# Altium footprint library Antenna.PcbLib: 7 footprints
Each footprint in its own frame and in the unit in brackets; x right, y up, seen from the top. Pads: shape width x height; smd on the part's side, far side on the other; paste and mask are expansions set on the pad; w line width, h text height; cw(c..) or ccw(c..) is an arc to the next point about the centre after c.
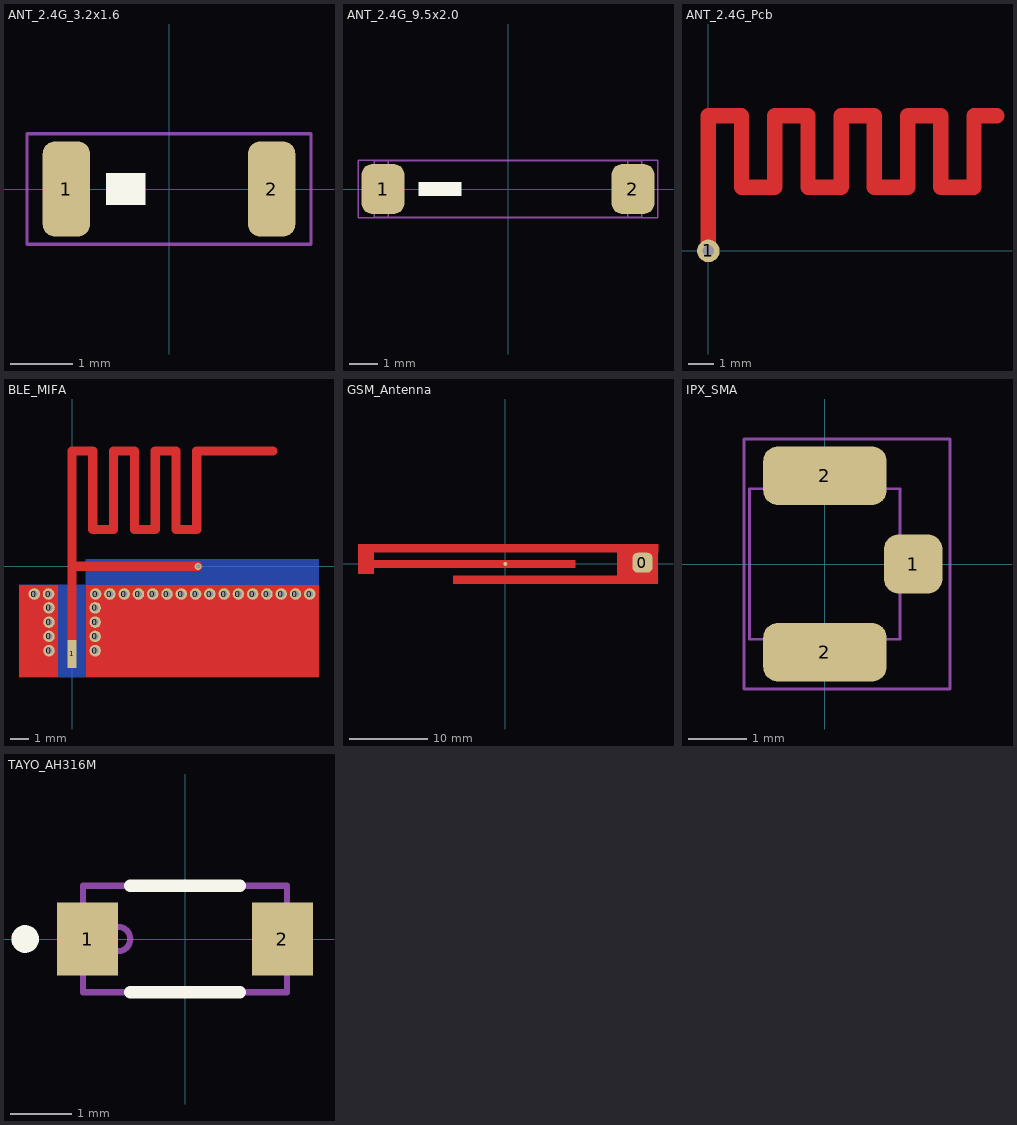
[diagram p0: the footprints below, top view; thin cyan lines are the x and y axes]

## ANT_2.4G_3.2x1.6 [mil]
height 47.24
pads (2):
  rrect50% 30x60 smd: 1(-65,0) 2(65,0)
Top Overlay:
  rectangle: -40,-10 -15,10
T-Component:
  lines w2: -90,-35 -90,35 90,35 90,-35 -90,-35
  text ".Designator" at -75,-20 h80
3D body "User Library-2450AT18A100E.STEP": height 53.15, standoff -1.97, extent -64.96,-33.46 64.96,33.47

## ANT_2.4G_9.5x2.0 [mil]
height 47.24
pads (2):
  rrect50% 60x70 smd: 1(-175,0) 2(175,0)
Top Overlay:
  rectangle: -125,-10 -65,10
Mechanical 13:
  lines w2: -167.32,-39.37 -167.32,39.37 ; 167.32,-39.37 167.32,39.37 ; -187.01,-39.37 187.01,-39.37 187.01,39.37 -187.01,39.37 -187.01,-39.37
T-Component:
  lines w2: -210,-40 210,-40 210,40 -210,40 -210,-40
  text ".Designator" at -75,-20 h80
3D body "User Library-ANTENNA_WLAN.STEP": height 40.16, standoff -0.79, extent -187.8,-40 187.8,40.31

## ANT_2.4G_Pcb [mil]
pads (1):
  round 35 hole 18: 1(0,0)
Top Layer:
  lines w23.62: 0,3.51 0,208.24 51.18,208.24 51.18,98 102.36,98 102.36,208.24 153.54,208.24 153.54,98 204.72,98 204.72,208.24 255.91,208.24 255.91,98 307.09,98 307.09,208.24 358.27,208.24 358.27,98 409.45,98 409.45,208.24 444.88,208.24

## BLE_MIFA [mil]
pads (27):
  round 25 hole 15: 0(-81.93,-60) 0(-51,-60) 0(-50,-182.8) 0(-50,-151.87) 0(-50,-120.93) 0(-50,-90) 0(50,-182.8) 0(50,-151.87) 0(50,-120.93) 0(50,-90) 0(51,-60) 0(81.93,-60) 0(112.87,-60) 0(143.8,-60) 0(174.73,-60) 0(205.67,-60) 0(236.6,-60) 0(267.53,-60) 0(298.47,-60) 0(329.4,-60) 0(360.33,-60) 0(391.27,-60) 0(422.2,-60) 0(453.13,-60) 0(484.07,-60) 0(515,-60)
  rect 20x60 smd: 1(0,-190)
via 273,0 diameter 15 hole 10
Top Layer:
  rectangle: -115,-240 -30,-40
  rectangle: -10,-165 10,10
  rectangle: 30,-240 535,-40
  lines w20: 273,0 0,0 0,250 45,250 45,80 90,80 90,250 135,250 135,80 180,80 180,250 225,250 225,80 270,80 270,250 435,250
Bottom Layer:
  region: -115,-40 30,-40 30,15 535,15 535,-240 -115,-240
  lines w3: -30,-170 -15,-170 ; 155,-40 155,-10

## GSM_Antenna [mil]
pads (2):
  rrect50% 100x100 smd: 0(690,5)
  round 20 smd: 1(1.06,-0.91)
Top Layer:
  region: 353.43,17.94 353.43,-21.43 -738.27,-21.43 -738.27,17.94
  region: -659.93,-50.33 -738.74,-50.33 -738.74,94.58 -659.93,94.58
  region: 767.91,96.85 767.91,57.49 -738.16,57.49 -738.16,96.85
  region: 629.14,-60.37 629.14,-99.74 -259.46,-99.74 -259.46,-60.37
  region: 767.76,96.72 767.76,-100.12 564.3,-100.12 564.3,96.72

## IPX_SMA [mil]
pads (3):
  rrect50% 40x40 smd: 1(60,0)
  rrect50% 84x40 smd: 2(0,-60) 2(0,60)
Mechanical 13:
  lines w2: -51.18,-51.18 51.18,-51.18 51.18,51.18 -51.18,51.18 -51.18,-51.18
T-Component:
  lines w2: -55,-85 85,-85 85,85 -55,85 -55,-85
  text ".Designator" at -60,-20 h80

## TAYO_AH316M [mm]
pads (2):
  rect 1x1.2 smd: 1(-1.6,0) 2(1.6,0)
Top Overlay:
  circle w0.254: c-2.627,0 r0.1
  lines w0.2: -0.9,-0.875 0.9,-0.875 ; -0.9,0.875 0.9,0.875
Mechanical 5:
  circle w0.1: c-1.1,0 r0.2
  lines w0.1: -1.675,-0.875 -1.675,0.875 1.675,0.875 1.675,-0.875 -1.675,-0.875
3D body: height 0.6, standoff 0, extent -1.675,-0.875 1.675,0.875
3D body: height 0.61, standoff 0.01, extent -1.398,-0.299 -0.8,0.3